# EAGLE library part MICROSDBREAKOUT5V (library Breakouts)
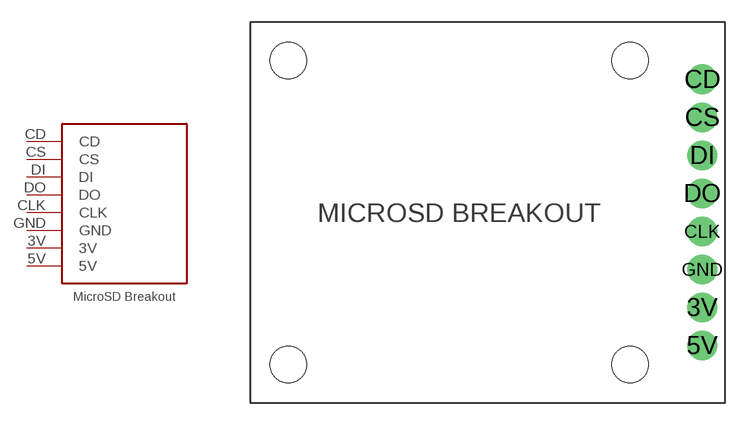
[diagram p0: symbol with the pads of MICROSDBREAKOUT5V; footprint MICROSDBREAKOUT5V]

Designator prefix -

## MICROSDBREAKOUT5V  [MICROSDBREAKOUT5V]
3V  3V
5V  5V
CD  CD
CLK  CLK
CS  CS
DI  DI
DO  DO
GND  GND

## Footprint MICROSDBREAKOUT5V (pad centres in mm)
Arduino MicroSD card breakout board+ https://www.adafruit.com/product/254
drill 1 pad 2: 3V 16.256,-6.35; 5V 16.256,-8.89; CD 16.256,8.89; CLK 16.256,-1.27; CS 16.256,6.35; DI 16.256,3.81; DO 16.256,1.27; GND 16.256,-3.81
hole 2.438 at 11.43,10.16
hole 2.438 at -11.43,-10.16
hole 2.438 at -11.43,10.16
hole 2.438 at 11.43,-10.16